# EAGLE library part NE555PWR_TIMER (library myLib)
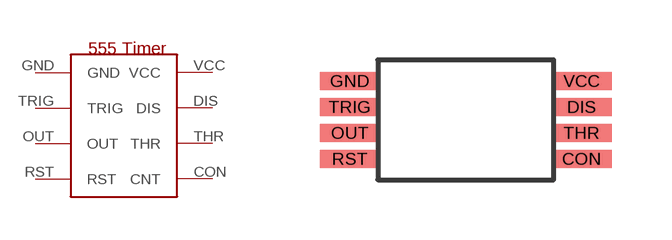
[diagram p1: symbol with the pads of PW0008A; footprint PW0008A]

Designator prefix -

## NE555PWR_TIMER  [PW0008A]
CON  CNT
DIS  DIS
GND  GND
OUT  OUT
RST  RST
THR  THR
TRIG  TRIG
VCC  VCC

## Footprint PW0008A (pad centres in mm)
smd 1.5 x 0.45: CON 2.9,-0.975; DIS 2.9,0.325; GND -2.9,0.975; OUT -2.9,-0.325; RST -2.9,-0.975; THR 2.9,-0.325; TRIG -2.9,0.325; VCC 2.9,0.975